# Altium schematic symbol library JMP-SMALL.Schlib: 1 symbol
Pins are listed as number, name and electrical type; pins without a type are passive.

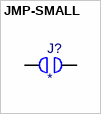
[diagram p0: symbol JMP-SMALL]

## JMP-SMALL
designator J?
pins: 1, 2